# Altium schematic symbol library SCH - INTERFACE - CAN - ISO1044B.SCHLIB: 1 symbol
Pins are listed as number, name and electrical type; pins without a type are passive.

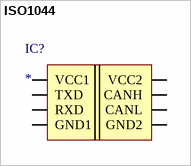
[diagram p0: symbol ISO1044]

## ISO1044
designator IC?
pins: 1 VCC1, 2 TXD, 3 RXD, 4 GND1, 5 CANL, 6 CANH, 7 GND2, 8 VCC2